# Altium schematic symbol library 显示屏.SchLib: 3 symbols
Pins are listed as number, name and electrical type; pins without a type are passive.

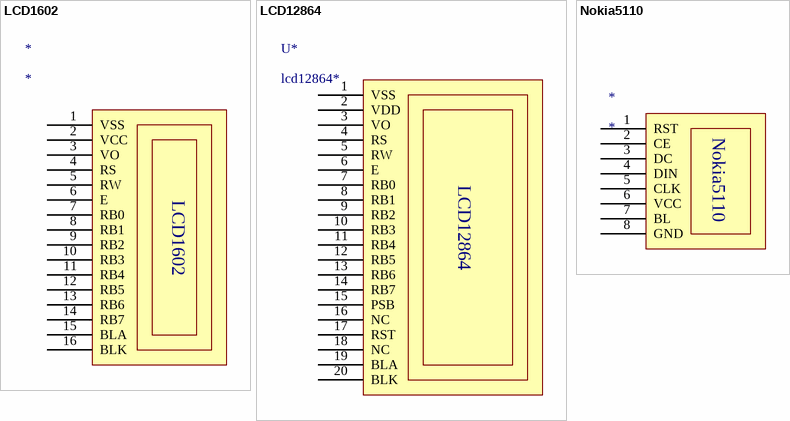
[diagram p0: symbols LCD1602 to Nokia5110]

## LCD1602
designator *
pins: 1 VSS, 2 VCC, 3 VO, 4 RS, 5 RW, 6 E, 7 RB0, 8 RB1, 9 RB2, 10 RB3, 11 RB4, 12 RB5, 13 RB6, 14 RB7, 15 BLA, 16 BLK

## LCD12864
designator U*, comment lcd12864*
pins: 1 VSS, 2 VDD, 3 VO, 4 RS, 5 RW, 6 E, 7 RB0, 8 RB1, 9 RB2, 10 RB3, 11 RB4, 12 RB5, 13 RB6, 14 RB7, 15 PSB, 16 NC, 17 RST, 18 NC, 19 BLA, 20 BLK

## Nokia5110
designator *
pins: 1 RST, 2 CE, 3 DC, 4 DIN, 5 CLK, 6 VCC, 7 BL, 8 GND